# Altium schematic symbol library GeneralComponents.SchLib: 27 symbols
Pins are listed as number, name and electrical type; pins without a type are passive.

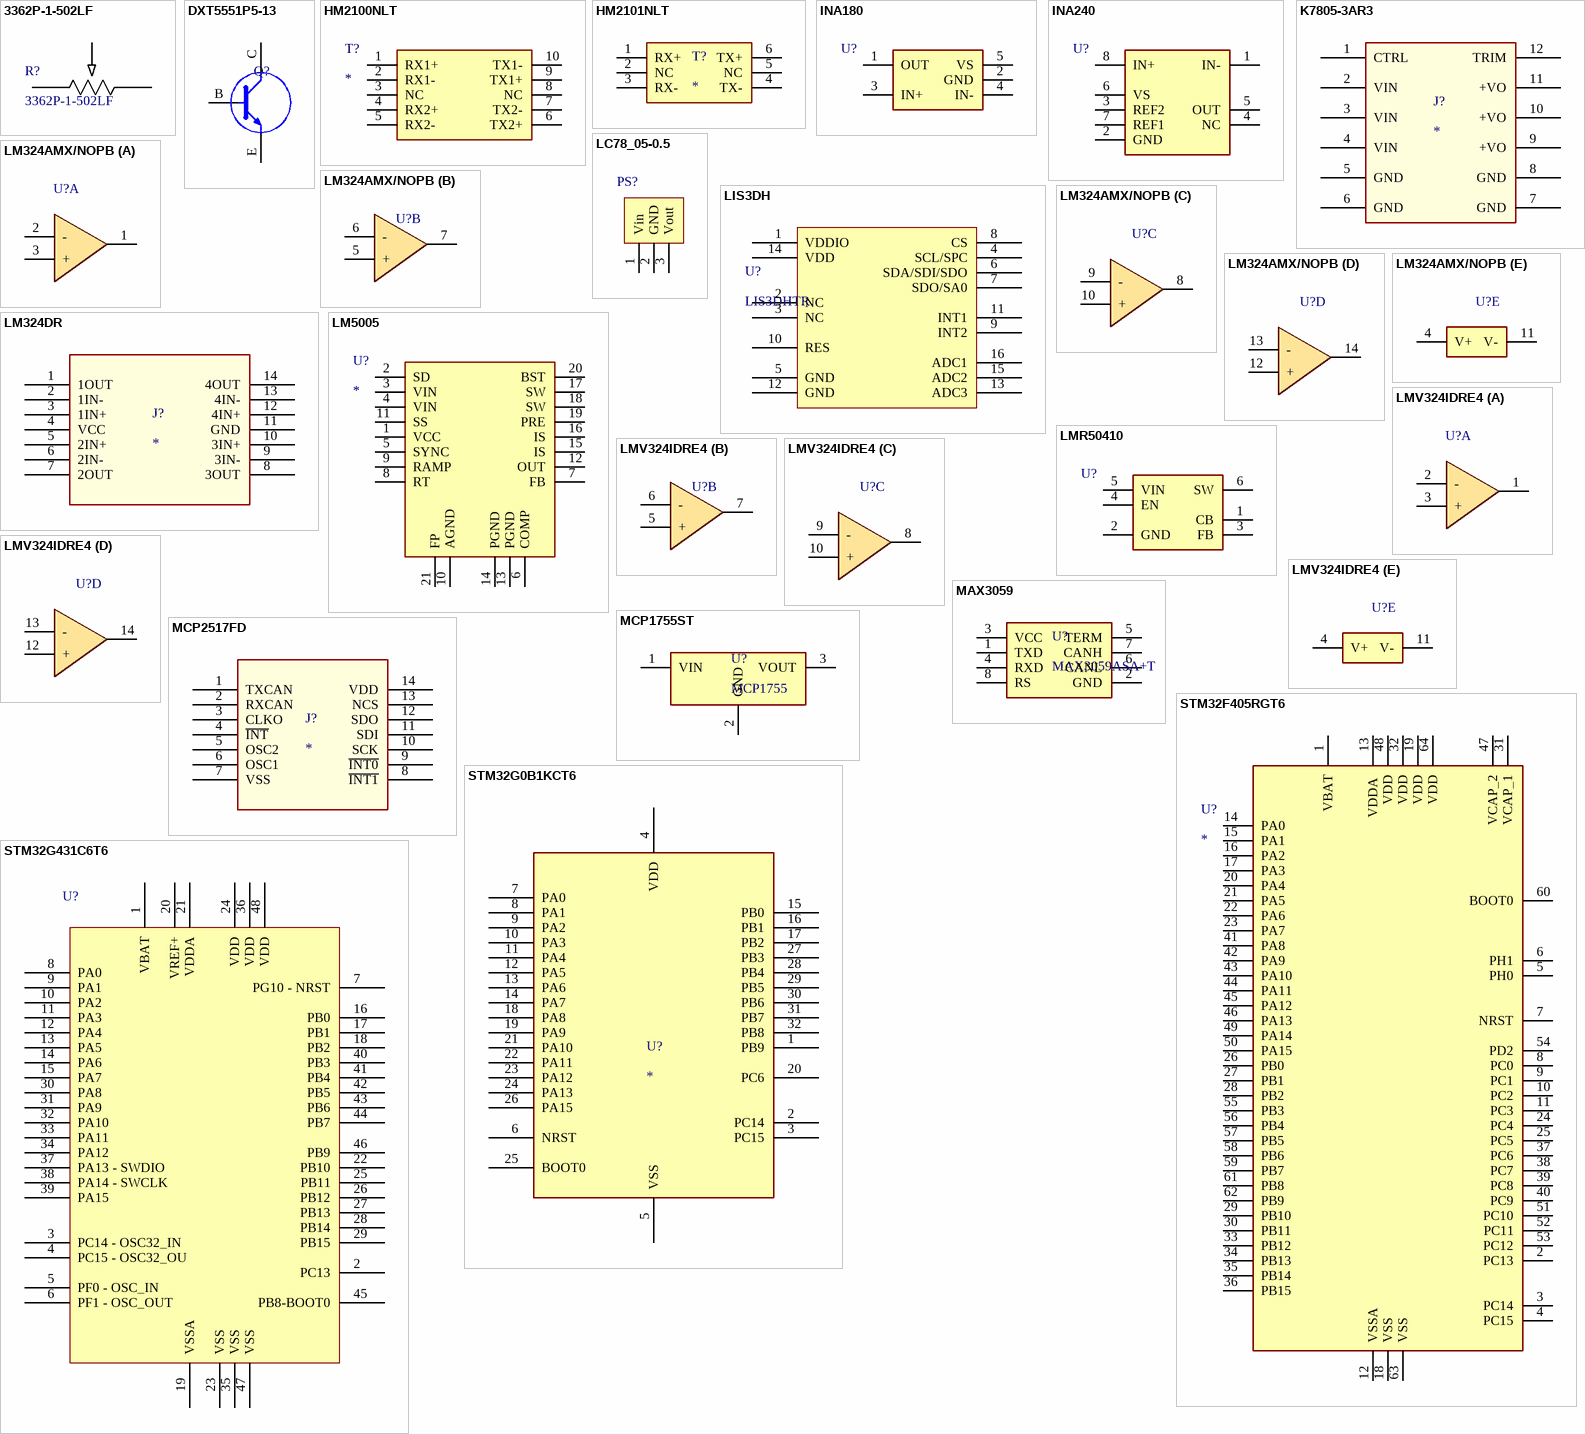
[diagram p0: symbols 3362P-1-502LF to STM32G431C6T6]

## 3362P-1-502LF
designator R?
TRIMMER 5K OHM 0.5W PC PIN TOP; Mfr_Name: Bourns Electronics; Copyright: Copyright (C) 2022 Ultra Librarian. All rights reserved.; Manufacturer_Part_Number: 3362P-1-502LF; Digi-Key_Part_Number_1: 3362P-502LF-ND; RefDes: RefDes; Type: DEV
footprint POT_3362P
pins: 1, 2, 3

## DXT5551P5-13
designator Q?, comment TRANS NPN 160V 0.6A POWERDI5  (value not drawn)
Bipolar (BJT) Transistor NPN 160 V 600 mA 130MHz 2.25 W Surface Mount PowerDI™ 5
footprint DXT5551P5
pins: B 2, C 1, E 3

## HM2100NLT
designator T?
Pulse Transformer 1:1 Surface Mount 150µH, 450µH; Manufacturer: Pulse Electronics; Manufacturer Part Number: HM2100NLT; Supplier Part Number: 1840-1032-1-ND; Supplier: Digikey; ComponentLink1Description: Datasheet; ComponentLink1URL: https://productfinder.pulseeng.com/doc_type/WEB301/doc_num/HM2100NL/doc_part/HM2100NL.pdf
footprint HM2100NLT
pins: 1 RX1+, 2 RX1-, 3 NC, 4 RX2+, 5 RX2-, 6 TX2+, 7 TX2-, 8 NC, 9 TX1+, 10 TX1-

## HM2101NLT
designator T?
Pulse Transformer 1:1 Surface Mount 150µH, 450µH
footprint HM2101NLT
pins: 1 RX+, 2 NC, 3 RX-, 4 TX-, 5 NC, 6 TX+

## INA180
designator U?
0V to 26V Current Sense Amplifier; Manufacturer: Texas Instruments; Manufacturer Part Number: INA180A2IDBVR; Supplier Part Number: 296-47653-1-ND; Supplier: Digikey; ComponentLink1Description: Datasheet; ComponentLink1URL: https://www.ti.com/lit/ds/symlink/ina180.pdf?ts=1618562671692&ref_url=https%253A%252F%252Fwww.google.com%252F
footprint INA180 (SOT23, 5-Leads, Body 2.80x2.80mm, Pitch 0.95mm, IPC Medium Density)
pins: 1 OUT, 2 GND, 3 IN+, 4 IN-, 5 VS

## INA240
designator U?
-4V to 80V Current Sense Amplifier; Manufacturer: Texas Instruments; Manufacturer Part Number: INA240A2DR; Supplier Part Number: 296-51173-1-ND; Supplier: Digikey; ComponentLink1Description: Datasheet; ComponentLink1URL: https://www.ti.com/lit/ds/sbos662b/sbos662b.pdf
footprint INA240 (SOIC, 8-Leads, Body 4.91x3.90mm, Pitch 1.27mm, IPC Medium Density)
pins: 1 IN-, 2 GND (power), 3 REF2, 4 NC, 5 OUT, 6 VS (power), 7 REF1, 8 IN+

## K7805-3AR3
designator J?
Non-Isolated PoL Module DC DC Converter 1 Output 5V 3A 8V - 36V Input; Manufacturer Name: Mornsun America, LLC; Manufacturer Part Number: K7805-3AR3; Supplier: Digikey; Supplier Part Number: 2725-K7805-3AR3-ND; Datasheet: https://www.mornsun-power.com/html/pdf/K7803-3AR3.html
footprint K7805-3AR3 (Non-Isolated PoL Module DC DC Converter 1 Output 5V 3A 8V - 36V Input)
pins: 1 CTRL, 2 VIN, 3 VIN, 4 VIN (power), 5 GND, 6 GND, 7 GND, 8 GND, 9 +VO, 10 +VO, 11 +VO (power), 12 TRIM

## LC78_05-0.5
designator PS?
Non-Isolated PoL Module DC DC Converter 1 Output 5V 500mA 6.8V - 28V Input; Manufacturer: GAPTEC Electronic. KG; Manufacturer Part Number: LC78_05-0.5; RoHS: No; Supplier 1: Digi-Key; Supplier Part Number 1: 3182-LC78_05-0.5-ND
footprint LC78_05-0.5
pins: 1 Vin, 2 GND, 3 Vout

## LIS3DH
designator U?, comment LIS3DHTR
ACCEL 2-16G I2C/SPI 16LGA; Manufacturer: ST; Manufacturer Part Number: LIS3DHTR; Supplier: Digikey; Supplier Part Number: 497-10613-1-ND
footprint PQFN50P300X300X100-16N (PQFN, 16-Leads, Body 3.00x3.00mm, Pitch 0.50mm, IPC Medium Density)
pins: 1 VDDIO, 2 NC, 3 NC, 4 SCL/SPC, 5 GND, 6 SDA/SDI/SDO, 7 SDO/SA0, 8 CS, 9 INT2, 10 RES, 11 INT1, 12 GND, 13 ADC3, 14 VDD, 15 ADC2, 16 ADC1

## LM324AMX/NOPB
designator U?  (value not drawn)
Gen Purp 4Ch Opamp; Manufacturer Part Number: LM324AMX/NOPB; Manufacturer: TI; Supplier Part Number: LM324AMX/NOPBCT-ND; Supplier: Digikey; ComponentLink1Description: Datasheet; ComponentLink1URL: https://www.ti.com/lit/ds/symlink/lm124-n.pdf?HQS=dis-dk-null-digikeymode-dsf-pf-null-wwe&ts=1616555832552
footprint LM324AMX/NOPB (Gen Purp 4Ch Opamp)
part A pins: 1 14, 2 -, 3 +
part B pins: 5 +, 6 -, 7 14
part C pins: 8 14, 9 -, 10 +
part D pins: 12 +, 13 -, 14
part E pins: 4 V+, 11 V-

## LM324DR
designator J?
General Purpose Amplifier 4 Circuit 14-SOIC; Manufacturer Name: TI; Manufacturer Part Number: LM324DR; Supplier: Digikey; Supplier Part Number: 296-14597-2-ND
footprint LM324DR (General Purpose Amplifier 4 Circuit 14-SOIC)
pins: 1 1OUT, 2 1IN-, 3 1IN+, 4 VCC (power), 5 2IN+, 6 2IN-, 7 2OUT, 8 3OUT, 9 3IN-, 10 3IN+, 11 GND (power), 12 4IN+, 13 4IN-, 14 4OUT

## LM5005
designator U?
7V to 75V 2.5A, Buck Converter; Manufacturer: Texas Instruments; Manufacturer Part Number: LM5005MHX/NOPB; Supplier Part Number: 926-LM5005MHX/NOPB; Supplier: Mouser; ComponentLink1Description: Datasheet; ComponentLink1URL: https://www.ti.com/lit/ds/symlink/lm5005.pdf?HQS=TI-null-null-digikeymode-df-pf-null-wwe&ts=1606456124909
footprint LM5005 (20-PowerTSSOP (0.173"", 4.40mm Width))
pins: 1 VCC, 2 SD, 3 VIN, 4 VIN, 5 SYNC, 6 COMP, 7 FB, 8 RT, 9 RAMP, 10 AGND, 11 SS, 12 OUT, 13 PGND, 14 PGND, 15 IS, 16 IS, 17 SW, 18 SW, 19 PRE, 20 BST, 21 FP

## LMR50410
designator U?
4V to 36V 1A, Buck Converter; Manufacturer: Texas Instruments; Manufacturer Part Number: LMR50410YQDBVRQ1; Supplier Part Number: LMR50410YQDBVRQ1CT-ND; Supplier: Digikey; ComponentLink1Description: Datasheet; ComponentLink1URL: https://www.ti.com/lit/ds/symlink/lmr50410-q1.pdf
footprint LMR50410 (SOT23, 6-Leads, Body 2.90x2.80mm, Pitch 0.95mm, IPC Medium Density)
pins: 1 CB, 2 GND (power), 3 FB, 4 EN, 5 VIN (power), 6 SW

## LMV324IDRE4
designator U?  (value not drawn)
Gen Purp 4Ch Opamp; Manufacturer Part Number: LMV324IDRE4; Manufacturer: TI; Supplier Part Number: 595-LMV324IDRE4; Supplier: Mouser; ComponentLink1Description: Datasheet; ComponentLink1URL: https://rocelec.widen.net/view/pdf/hsbslfymvc/slos263w.pdf?t.download=true&u=5oefqw
footprint LMV324IDRE4 (Gen Purp 4Ch Opamp)
part A pins: 1 14, 2 -, 3 +
part B pins: 5 +, 6 -, 7 14
part C pins: 8 14, 9 -, 10 +
part D pins: 12 +, 13 -, 14
part E pins: 4 V+, 11 V-

## MAX3059
designator U?, comment MAX3059ASA+T
IC TRANSCEIVER FULL 1/1 8SO; Manufacturer: Maxim; Manufacturer Part Number: MAX3059ASA+T; Supplier: Digikey; Supplier Part Number: MAX3059ASA+TCT-ND; ComponentLink1Description: Datasheet; ComponentLink1URL: https://datasheets.maximintegrated.com/en/ds/MAX3058-MAX3059.pdf
footprint MAX3059 (SOIC127P600X175-8N)
pins: 1 TXD, 2 GND, 3 VCC, 4 RXD, 5 TERM, 6 CANL, 7 CANH, 8 RS

## MCP1755ST
designator U?, comment MCP1755
Linear Regulator 300mA; Manufacturer: Microchip; Manufacturer Part Number: *; Supplier: Digikey; Supplier Part Number: *; ComponentLink1Description: Datasheet; ComponentLink1URL: http://ww1.microchip.com/downloads/en/devicedoc/25160a.pdf
footprint MCP1755ST (Load Drop Voltage Regulator)
pins: 1 VIN, 2 GND, 3 VOUT

## MCP2517FD
designator J?
CANbus Controller CAN 2.0 SPI Interface 14-SOIC; Manufacturer Name: Microchip Technology; Manufacturer Part Number: MCP2517FDT-H/SL; Supplier: Digikey; Supplier Part Number: MCP2517FDT-H/SLTR-ND; Datasheet: https://ww1.microchip.com/downloads/en/DeviceDoc/MCP2517FD-External-CAN-FD-Controller-with-SPI-Interface-20005688B.pdf
footprint MCP2517FD (CANbus Controller CAN 2.0 SPI Interface 14-SOIC)
pins: 1 TXCAN, 2 RXCAN, 3 CLKO, 4 ~{INT} (power), 5 OSC2, 6 OSC1, 7 VSS, 8 ~{INT1}, 9 ~{INT0}, 10 SCK, 11 SDI (power), 12 SDO, 13 NCS, 14 VDD

## STM32F405RGT6
designator U?
ST 64-pin Micro; Manufacturer Part Number: STM32F405RG; Manufacturer: ST; Supplier Part Number: 497-11767-ND; Supplier: Digikey; ComponentLink1Description: Datsheet; ComponentLink1URL: https://www.st.com/content/ccc/resource/technical/document/datasheet/ef/92/76/6d/bb/c2/4f/f7/DM00037051.pdf/files/DM00037051.pdf/jcr:content/translations/en.DM00037051.pdf
footprint STM32F405RGT6TR
pins: 1 VBAT (power), 2 PC13, 3 PC14, 4 PC15, 5 PH0, 6 PH1, 7 NRST, 8 PC0, 9 PC1, 10 PC2, 11 PC3, 12 VSSA (power), 13 VDDA  (power), 14 PA0, 15 PA1, 16 PA2, 17 PA3, 18 VSS (power), 19 VDD (power), 20 PA4, 21 PA5, 22 PA6, 23 PA7, 24 PC4, 25 PC5, 26 PB0, 27 PB1, 28 PB2, 29 PB10, 30 PB11, 31 VCAP_1 (power), 32 VDD (power), 33 PB12, 34 PB13, 35 PB14, 36 PB15, 37 PC6, 38 PC7, 39 PC8, 40 PC9, 41 PA8, 42 PA9, 43 PA10, 44 PA11, 45 PA12, 46 PA13, 47 VCAP_2 (power), 48 VDD (power), 49 PA14, 50 PA15, 51 PC10, 52 PC11, 53 PC12, 54 PD2, 55 PB3, 56 PB4, 57 PB5, 58 PB6, 59 PB7, 60 BOOT0, 61 PB8, 62 PB9, 63 VSS (power), 64 VDD (power)

## STM32G0B1KCT6
designator U?
ARM® Cortex®-M0+ series Microcontroller IC 32-Bit Single-Core 64MHz 256KB (256K x 8) FLASH 32-LQFP (7x7); Manufacturer: ST; Manufacturer Part Number: STM32G0B1KCT6; Supplier: Mouser; Supplier Part Number: 511-STM32G0B1KCT6
footprint STM32G0B1KCT6
pins: 1 PB9, 2 PC14, 3 PC15, 4 VDD, 5 VSS, 6 NRST, 7 PA0, 8 PA1, 9 PA2, 10 PA3, 11 PA4, 12 PA5, 13 PA6, 14 PA7, 15 PB0, 16 PB1, 17 PB2, 18 PA8, 19 PA9, 20 PC6, 21 PA10, 22 PA11, 23 PA12, 24 PA13, 25 BOOT0, 26 PA15, 27 PB3, 28 PB4, 29 PB5, 30 PB6, 31 PB7, 32 PB8

## STM32G431C6T6
designator U?  (value not drawn)
MCU 32BIT 32KB FLASH 48LQFP; Manufacturer: ST; Manufacturer Part Number: STM32G431C6T6; Supplier: Digikey; Supplier Part Number: STM32G431C6T6-ND
footprint TSQFP50P900X900X160-48N (TSQFP, 48-Leads, Body 7.00x7.00mm, Pitch 0.50mm, IPC Medium Density)
footprint STM32G431C6T6
pins: 1 VBAT (power), 2 PC13, 3 PC14 - OSC32_IN, 4 PC15 - OSC32_OU, 5 PF0 - OSC_IN, 6 PF1 - OSC_OUT, 7 PG10 - NRST, 8 PA0, 9 PA1, 10 PA2, 11 PA3, 12 PA4, 13 PA5, 14 PA6, 15 PA7, 16 PB0, 17 PB1, 18 PB2, 19 VSSA (power), 20 VREF+ (power), 21 VDDA (power), 22 PB10, 23 VSS (power), 24 VDD (power), 25 PB11, 26 PB12, 27 PB13, 28 PB14, 29 PB15, 30 PA8, 31 PA9, 32 PA10, 33 PA11, 34 PA12, 35 VSS (power), 36 VDD (power), 37 PA13 - SWDIO, 38 PA14 - SWCLK, 39 PA15, 40 PB3, 41 PB4, 42 PB5, 43 PB6, 44 PB7, 45 PB8-BOOT0, 46 PB9, 47 VSS (power), 48 VDD (power)

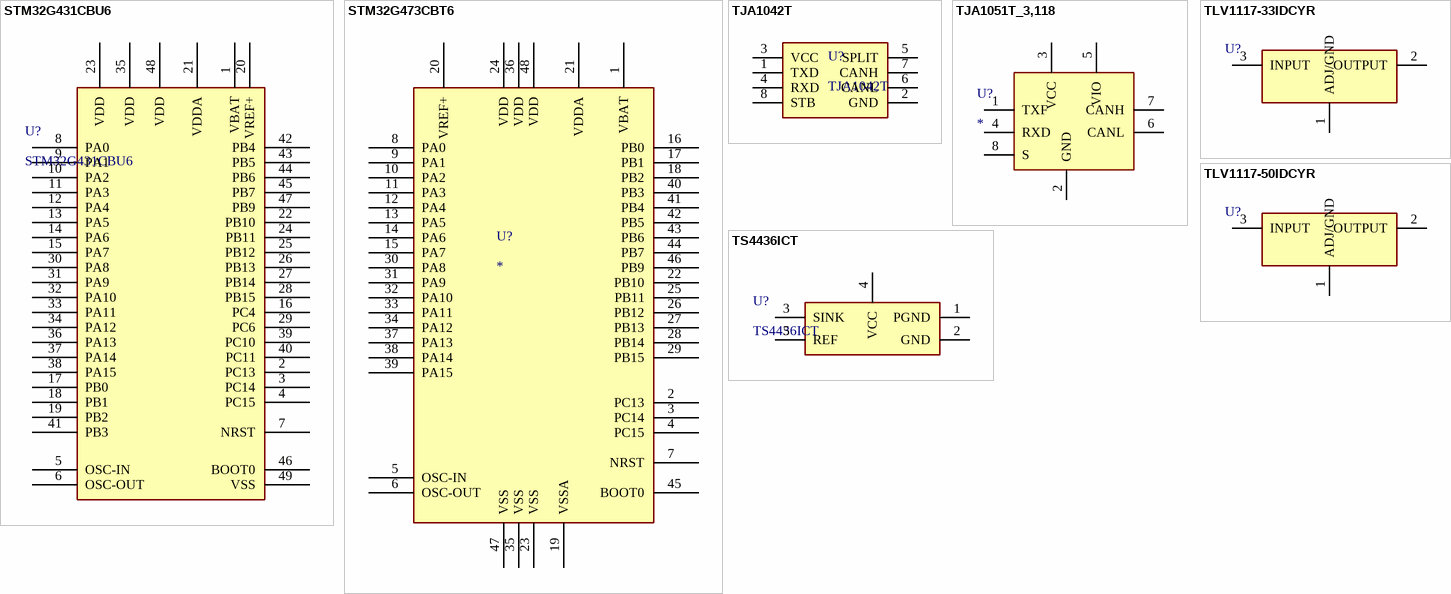
[diagram p1: symbols STM32G431CBU6 to TS4436ICT]

## STM32G431CBU6
designator U?
128K FLASH + 32K RAM MICRO; Manufacturer: ST; Manufacturer Part Number: STM32G431CBU6; Supplier Part Number: C529356; Supplier: JLCPCB; ComponentLink1Description: Datasheet; ComponentLink1URL: https://www.st.com/resource/en/datasheet/stm32g431cb.pdf
footprint STM32G431CBU6 (48-UFQFPN (7x7))
pins: 1 VBAT, 2 PC13, 3 PC14, 4 PC15, 5 OSC-IN, 6 OSC-OUT, 7 NRST, 8 PA0, 9 PA1, 10 PA2, 11 PA3, 12 PA4, 13 PA5, 14 PA6, 15 PA7, 16 PC4, 17 PB0, 18 PB1, 19 PB2, 20 VREF+, 21 VDDA, 22 PB10, 23 VDD, 24 PB11, 25 PB12, 26 PB13, 27 PB14, 28 PB15, 29 PC6, 30 PA8, 31 PA9, 32 PA10, 33 PA11, 34 PA12, 35 VDD, 36 PA13, 37 PA14, 38 PA15, 39 PC10, 40 PC11, 41 PB3, 42 PB4, 43 PB5, 44 PB6, 45 PB7, 46 BOOT0, 47 PB9, 48 VDD, 49 VSS

## STM32G473CBT6
designator U?
ARM Microcontrollers - MCU Mainstream Arm Cortex-M4 MCU 170MHz 128Kbytes of Flash Math Accel, High Analog l; Manufacturer: ST; Manufacturer Part Number: STM32G473CBT6; Supplier: Mouser; Supplier Part Number: 511-STM32G473CBT6
footprint STM32G473C
pins: 1 VBAT, 2 PC13, 3 PC14, 4 PC15, 5 OSC-IN, 6 OSC-OUT, 7 NRST, 8 PA0, 9 PA1, 10 PA2, 11 PA3, 12 PA4, 13 PA5, 14 PA6, 15 PA7, 16 PB0, 17 PB1, 18 PB2, 19 VSSA, 20 VREF+, 21 VDDA, 22 PB10, 23 VSS, 24 VDD, 25 PB11, 26 PB12, 27 PB13, 28 PB14, 29 PB15, 30 PA8, 31 PA9, 32 PA10, 33 PA11, 34 PA12, 35 VSS, 36 VDD, 37 PA13, 38 PA14, 39 PA15, 40 PB3, 41 PB4, 42 PB5, 43 PB6, 44 PB7, 45 BOOT0, 46 PB9, 47 VSS, 48 VDD

## TJA1042T
designator U?
CAN Interface IC Hi Spd CAN Transcvr 4.5V-5.5V 250ns; Manufacturer: NXP; Manufacturer Part Number: TJA1042T/3,118; Supplier: Mouser; Supplier Part Number: 771-TJA1042T3118; ComponentLink1Description: Datasheet; ComponentLink1URL: https://www.mouser.ca/datasheet/2/302/TJA1042-1127932.pdf
footprint TJA1042T (SOIC127P600X175-8N)
pins: 1 TXD, 2 GND, 3 VCC, 4 RXD, 5 SPLIT, 6 CANL, 7 CANH, 8 STB

## TJA1051T_3,118
designator U?
CAN Transceiver IC 4.5V-5.5V 250ns; Manufacturer: NXP; Manufacturer Part Number: TJA1051T/3,118; Supplier Part Number: 568-8684-1-ND; Supplier: Digikey; ComponentLink1Description: Datasheet; ComponentLink1URL: http://www.nxp.com/docs/en/data-sheet/TJA1051.pdf
footprint TJA1051T/3,118 - duplicate (SOIC127P600X175-8N)
pins: 1 TXF, 2 GND, 3 VCC, 4 RXD, 5 VIO, 6 CANL, 7 CANH, 8 S

## TLV1117-33IDCYR
designator U?  (value not drawn)
Linear Voltage Regulator IC 3.3V 800MA SOT223-4; Manufacturer: Texas Instruments; Manufacturer Part Number: TLV1117-33IDCYR; Supplier Part Number: 296-21112-1-ND; Supplier: Digikey; ComponentLink1Description: Datasheet; ComponentLink1URL: http://www.ti.com/lit/ds/symlink/tlv1117.pdf?HQS=TI-null-null-digikeymode-df-pf-null-wwe&ts=1590668900314
footprint TLV1117 (SOT230P700X180-4N)
pins: 1 ADJ/GND, 2 OUTPUT, 3 INPUT

## TLV1117-50IDCYR
designator U?  (value not drawn)
Linear Voltage Regulator IC 5V 800MA SOT223-4; Manufacturer: Texas Instruments; Manufacturer Part Number: TLV1117-50IDCYR; Supplier Part Number: 296-21115-1-ND; Supplier: Digikey; ComponentLink1Description: Datasheet; ComponentLink1URL: http://www.ti.com/lit/ds/symlink/tlv1117.pdf?HQS=TI-null-null-digikeymode-df-pf-null-wwe&ts=1590668900314
footprint TLV1117 (SOT230P700X180-4N)
pins: 1 ADJ/GND, 2 OUTPUT, 3 INPUT

## TS4436ICT
designator U?
Shunt Voltage Reference IC Adjustable 0.6V 1.8 VV ±1% 20 mA SC-70-5; Manufacturer: ST; Manufacturer Part Number: TS4436ICT; Supplier Part Number: 497-TS4436ICT-ND; Supplier: Digikey; ComponentLink1Description: Datasheet; ComponentLink1URL: https://www.st.com/content/ccc/resource/technical/document/datasheet/c6/5e/50/38/17/1e/4e/fa/CD00096205.pdf/files/CD00096205.pdf/jcr:content/translations/en.CD00096205.pdf
footprint SOT323
pins: 1 PGND, 2 GND, 3 SINK, 4 VCC, 5 REF